# EAGLE library part EP2C8AT144 (library altera-cyclone-ii)
EP2C8AT144 Auto generated by make-symbol-device-package-bsdl.ulp Rev. 19 Source: EP2C8AT144.BSD
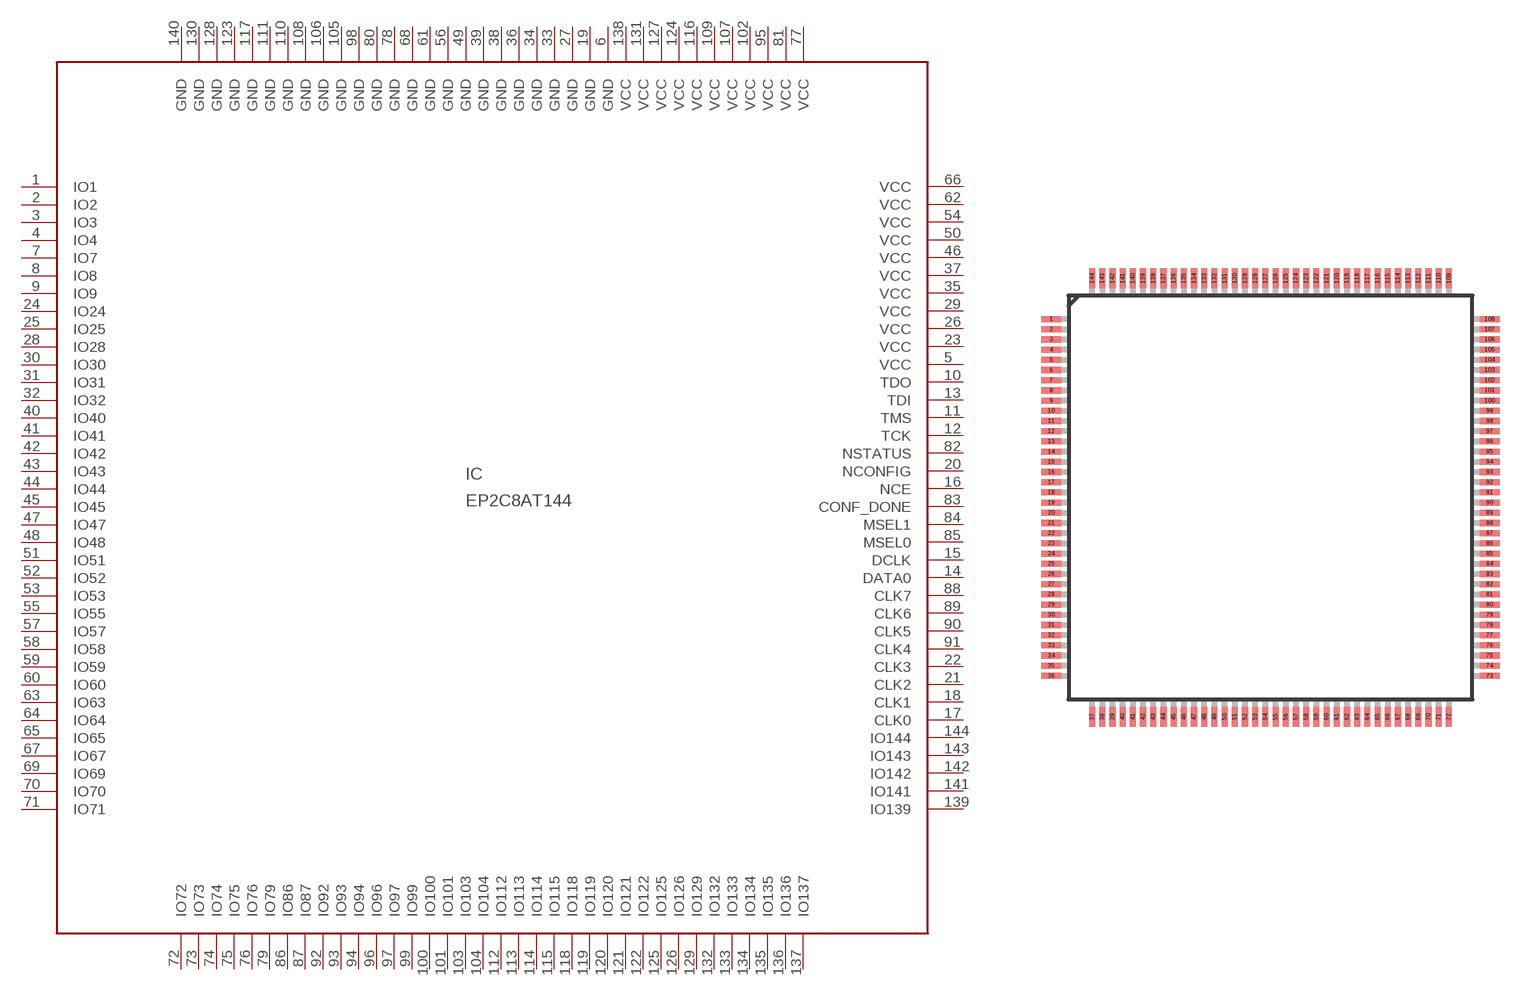
[diagram p0: symbol with the pads of TQFP144; footprint TQFP144]

Designator prefix IC

## EP2C8AT144  [TQFP144]
1  IO1  out
2  IO2  out
3  IO3
4  IO4
5  VCC  pwr
6  GND  pwr
7  IO7
8  IO8
9  IO9
10  TDO  out
11  TMS  in
12  TCK  in
13  TDI  in
14  DATA0
15  DCLK
16  NCE  in
17  CLK0
18  CLK1
19  GND  pwr
20  NCONFIG  in
21  CLK2
22  CLK3
23  VCC  pwr
24  IO24
25  IO25
26  VCC  pwr
27  GND  pwr
28  IO28
29  VCC  pwr
30  IO30
31  IO31
32  IO32
33  GND  pwr
34  GND  pwr
35  VCC  pwr
36  GND  pwr
37  VCC  pwr
38  GND  pwr
39  GND  pwr
40  IO40
41  IO41
42  IO42
43  IO43
44  IO44
45  IO45
46  VCC  pwr
47  IO47
48  IO48
49  GND  pwr
50  VCC  pwr
51  IO51
52  IO52
53  IO53
54  VCC  pwr
55  IO55
56  GND  pwr
57  IO57
58  IO58
59  IO59
60  IO60
61  GND  pwr
62  VCC  pwr
63  IO63
64  IO64
65  IO65
66  VCC  pwr
67  IO67
68  GND  pwr
69  IO69
70  IO70
71  IO71
72  IO72
73  IO73
74  IO74
75  IO75
76  IO76
77  VCC  pwr
78  GND  pwr
79  IO79
80  GND  pwr
81  VCC  pwr
82  NSTATUS  in
83  CONF_DONE  in
84  MSEL1  in
85  MSEL0  in
86  IO86
87  IO87
88  CLK7
89  CLK6
90  CLK5
91  CLK4
92  IO92
93  IO93
94  IO94
95  VCC  pwr
96  IO96
97  IO97
98  GND  pwr
99  IO99
100  IO100
101  IO101
102  VCC  pwr
103  IO103
104  IO104
105  GND  pwr
106  GND  pwr
107  VCC  pwr
108  GND  pwr
109  VCC  pwr
110  GND  pwr
111  GND  pwr
112  IO112
113  IO113
114  IO114
115  IO115
116  VCC  pwr
117  GND  pwr
118  IO118
119  IO119
120  IO120
121  IO121
122  IO122
123  GND  pwr
124  VCC  pwr
125  IO125
126  IO126
127  VCC  pwr
128  GND  pwr
129  IO129
130  GND  pwr
131  VCC  pwr
132  IO132
133  IO133
134  IO134
135  IO135
136  IO136
137  IO137
138  VCC  pwr
139  IO139
140  GND  pwr
141  IO141
142  IO142
143  IO143
144  IO144

## Footprint TQFP144 (pad centres in mm)
TQFP144 Auto generated by make-symbol-device-package-bsdl.ulp Rev. 19
smd 1 x 0.3: 1 -10.75,8.75; 2 -10.75,8.25; 3 -10.75,7.75; 4 -10.75,7.25; 5 -10.75,6.75; 6 -10.75,6.25; 7 -10.75,5.75; 8 -10.75,5.25; 9 -10.75,4.75; 10 -10.75,4.25; 11 -10.75,3.75; 12 -10.75,3.25; 13 -10.75,2.75; 14 -10.75,2.25; 15 -10.75,1.75; 16 -10.75,1.25; 17 -10.75,0.75; 18 -10.75,0.25; 19 -10.75,-0.25; 20 -10.75,-0.75; 21 -10.75,-1.25; 22 -10.75,-1.75; 23 -10.75,-2.25; 24 -10.75,-2.75; 25 -10.75,-3.25; 26 -10.75,-3.75; 27 -10.75,-4.25; 28 -10.75,-4.75; 29 -10.75,-5.25; 30 -10.75,-5.75; 31 -10.75,-6.25; 32 -10.75,-6.75; 33 -10.75,-7.25; 34 -10.75,-7.75; 35 -10.75,-8.25; 36 -10.75,-8.75; 73 10.75,-8.75; 74 10.75,-8.25; 75 10.75,-7.75; 76 10.75,-7.25; 77 10.75,-6.75; 78 10.75,-6.25; 79 10.75,-5.75; 80 10.75,-5.25; 81 10.75,-4.75; 82 10.75,-4.25; 83 10.75,-3.75; 84 10.75,-3.25; 85 10.75,-2.75; 86 10.75,-2.25; 87 10.75,-1.75; 88 10.75,-1.25; 89 10.75,-0.75; 90 10.75,-0.25; 91 10.75,0.25; 92 10.75,0.75; 93 10.75,1.25; 94 10.75,1.75; 95 10.75,2.25; 96 10.75,2.75; 97 10.75,3.25; 98 10.75,3.75; 99 10.75,4.25; 100 10.75,4.75; 101 10.75,5.25; 102 10.75,5.75; 103 10.75,6.25; 104 10.75,6.75; 105 10.75,7.25; 106 10.75,7.75; 107 10.75,8.25; 108 10.75,8.75
smd 0.3 x 1: 37 -8.75,-10.75; 38 -8.25,-10.75; 39 -7.75,-10.75; 40 -7.25,-10.75; 41 -6.75,-10.75; 42 -6.25,-10.75; 43 -5.75,-10.75; 44 -5.25,-10.75; 45 -4.75,-10.75; 46 -4.25,-10.75; 47 -3.75,-10.75; 48 -3.25,-10.75; 49 -2.75,-10.75; 50 -2.25,-10.75; 51 -1.75,-10.75; 52 -1.25,-10.75; 53 -0.75,-10.75; 54 -0.25,-10.75; 55 0.25,-10.75; 56 0.75,-10.75; 57 1.25,-10.75; 58 1.75,-10.75; 59 2.25,-10.75; 60 2.75,-10.75; 61 3.25,-10.75; 62 3.75,-10.75; 63 4.25,-10.75; 64 4.75,-10.75; 65 5.25,-10.75; 66 5.75,-10.75; 67 6.25,-10.75; 68 6.75,-10.75; 69 7.25,-10.75; 70 7.75,-10.75; 71 8.25,-10.75; 72 8.75,-10.75; 109 8.75,10.75; 110 8.25,10.75; 111 7.75,10.75; 112 7.25,10.75; 113 6.75,10.75; 114 6.25,10.75; 115 5.75,10.75; 116 5.25,10.75; 117 4.75,10.75; 118 4.25,10.75; 119 3.75,10.75; 120 3.25,10.75; 121 2.75,10.75; 122 2.25,10.75; 123 1.75,10.75; 124 1.25,10.75; 125 0.75,10.75; 126 0.25,10.75; 127 -0.25,10.75; 128 -0.75,10.75; 129 -1.25,10.75; 130 -1.75,10.75; 131 -2.25,10.75; 132 -2.75,10.75; 133 -3.25,10.75; 134 -3.75,10.75; 135 -4.25,10.75; 136 -4.75,10.75; 137 -5.25,10.75; 138 -5.75,10.75; 139 -6.25,10.75; 140 -6.75,10.75; 141 -7.25,10.75; 142 -7.75,10.75; 143 -8.25,10.75; 144 -8.75,10.75